# Altium schematic symbol library VUE75-06NO7.SchLib: 1 symbol
Pins are listed as number, name and electrical type; pins without a type are passive.

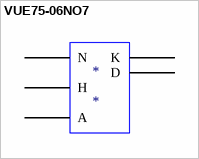
[diagram p0: symbol VUE75-06NO7]

## VUE75-06NO7
designator *
Rectifier
pins: ?1 K, ?2 N, ?3 H, ?4 A, ?5 D